# EAGLE library part MPL115A2 (library freescale)
Barometric Pressure Sensor
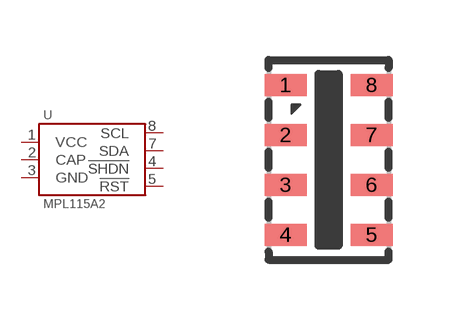
[diagram p2: symbol with the pads of MPL115A1; footprint MPL115A1]

Designator prefix U

## MPL115A2  [MPL115A1]
1  VCC
2  CAP
3  GND
4  !SHDN
5  !RST
7  SDA
8  SCL

## Footprint MPL115A1 (pad centres in mm)
smd 1.05 x 0.55: 1 -1.075,1.875; 2 -1.075,0.625; 3 -1.075,-0.625; 4 -1.075,-1.875; 5 1.075,-1.875; 6 1.075,-0.625; 7 1.075,0.625; 8 1.075,1.875